# EAGLE library part 5077CR-16-SMC2-BK-TR (library FaBo-USB)
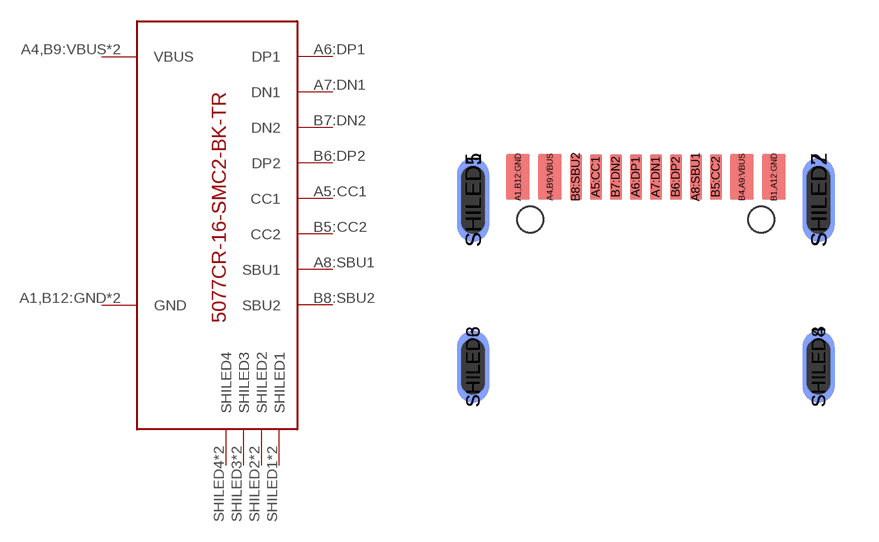
[diagram p10: symbol with the pads of 5077CR-16-SMC2-BK-TR; footprint 5077CR-16-SMC2-BK-TR]

Designator prefix -

## 5077CR-16-SMC2-BK-TR  [5077CR-16-SMC2-BK-TR]
A1,B12:GND  GND  sup
A4,B9:VBUS  VBUS  sup
A5:CC1  CC1
A6:DP1  DP1
A7:DN1  DN1
A8:SBU1  SBU1
B1,A12:GND  GND  sup
B4,A9:VBUS  VBUS  sup
B5:CC2  CC2
B6:DP2  DP2
B7:DN2  DN2
B8:SBU2  SBU2
SHILED1  SHILED1
SHILED2  SHILED2
SHILED3  SHILED3
SHILED4  SHILED4
SHILED5  SHILED1
SHILED6  SHILED2
SHILED7  SHILED3
SHILED8  SHILED4

## Footprint 5077CR-16-SMC2-BK-TR (pad centres in mm)
smd 0.6 x 1.14: A1,B12:GND -3.2,0; A4,B9:VBUS -2.4,0; B1,A12:GND 3.2,0; B4,A9:VBUS 2.4,0
smd 0.3 x 1.14: A5:CC1 -1.25,0; A6:DP1 -0.25,0; A7:DN1 0.25,0; A8:SBU1 1.25,0; B5:CC2 1.75,0; B6:DP2 0.75,0; B7:DN2 -0.75,0; B8:SBU2 -1.75,0
smd 0.8 x 2.1: SHILED1 -4.32,-0.57; SHILED2 4.32,-0.57
smd 0.8 x 1.8: SHILED3 -4.32,-4.75; SHILED4 4.32,-4.75
smd 0.8 x 2.1 bottom: SHILED5 -4.32,-0.57; SHILED7 4.32,-0.57
smd 0.8 x 1.8 bottom: SHILED6 -4.32,-4.75; SHILED8 4.32,-4.75
hole 0.65 at -2.89,-1.07
hole 0.65 at 2.89,-1.07